# Altium schematic symbol library SCH - Interface - ETH - DS1130-02-S8B8P.SCHLIB: 1 symbol
Pins are listed as number, name and electrical type; pins without a type are passive.

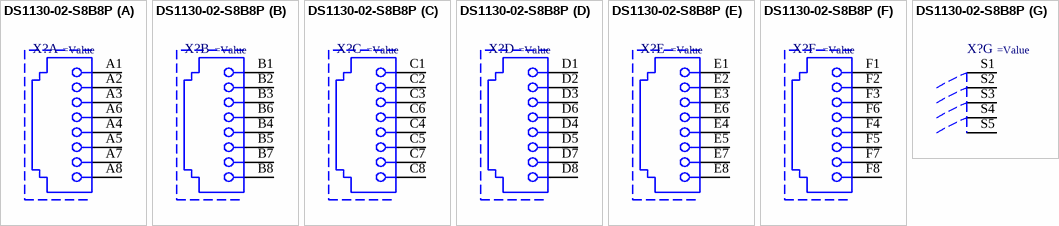
[diagram p0: symbol DS1130-02-S8B8P]

## DS1130-02-S8B8P
designator X?
RJ45 RJReceptacle 6 No Plugin Ethernet Connectors/Modular Connectors (RJ45 RJ11) ROHS
part A pins: A1, A2, A3, A4, A5, A6, A7, A8
part B pins: B1, B2, B3, B4, B5, B6, B7, B8
part C pins: C1, C2, C3, C4, C5, C6, C7, C8
part D pins: D1, D2, D3, D4, D5, D6, D7, D8
part E pins: E1, E2, E3, E4, E5, E6, E7, E8
part F pins: F1, F2, F3, F4, F5, F6, F7, F8
part G pins: S1, S2, S3, S4, S5